# Altium footprint library AltiumDesigner.PcbLib: 1 footprints
Each footprint in its own frame and in the unit in brackets; x right, y up, seen from the top. Pads: shape width x height; smd on the part's side, far side on the other; paste and mask are expansions set on the pad; w line width, h text height; cw(c..) or ccw(c..) is an arc to the next point about the centre after c.
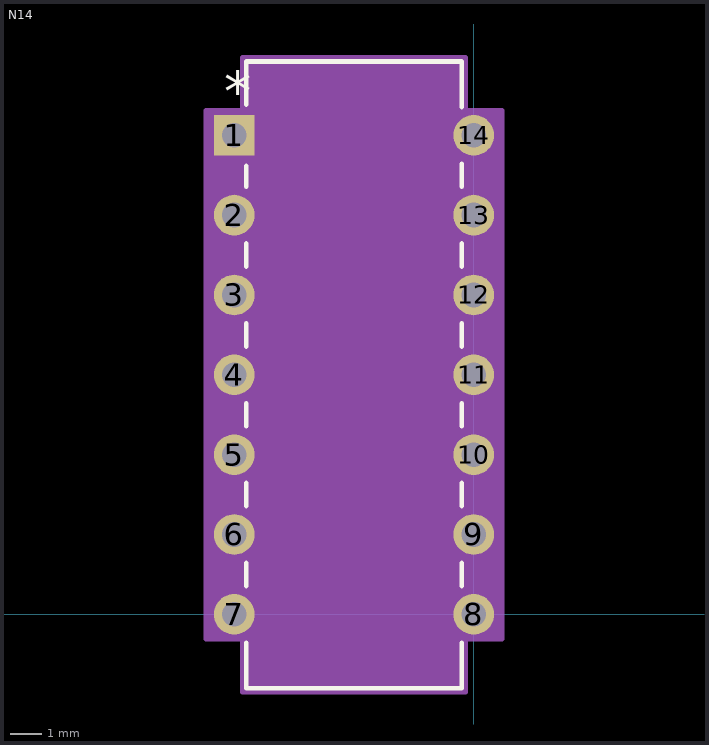
[diagram p0: the footprint, top view; thin cyan lines are the x and y axes]

## N14 [mil]
pads (14):
  rect 51x51 / inner round 60 / far side rect 51x51 hole 31 paste+0 mask+0: 1(-300,600)
  round 51 / inner round 60 / far side round 51 hole 31 paste+0 mask+0: 2(-300,500) 3(-300,400) 4(-300,300) 5(-300,200) 6(-300,100) 7(-300,0) 8(0,0) 9(0,100) 10(0,200) 11(0,300) 12(0,400) 13(0,500) 14(0,600)
Top Overlay:
  lines w6: -285,-35.57 -285,-92.5 -15,-92.5 -15,-35.57 ; -285,35.57 -285,64.43 ; -285,135.57 -285,164.43 ; -285,235.57 -285,264.43 ; -285,335.57 -285,364.43 ; -285,435.57 -285,464.43 ; -285,535.57 -285,561.4 ; -285,638.6 -285,692.5 -15,692.5 -15,635.57 ; -15,35.57 -15,64.43 ; -15,135.57 -15,164.43 ; -15,235.57 -15,264.43 ; -15,335.57 -15,364.43 ; -15,435.57 -15,464.43 ; -15,535.57 -15,564.43
  text "*" at -312.5,630.5 h50
Mechanical 13:
  lines w0: -162,687.5 ccw(c-150,687.5) -138,687.5
  lines w1: -315.5,-15.5 -315.5,15.5 -280,15.5 -280,-15.5 -315.5,-15.5 ; -315.5,84.5 -315.5,115.5 -280,115.5 -280,84.5 -315.5,84.5 ; -315.5,184.5 -315.5,215.5 -280,215.5 -280,184.5 -315.5,184.5 ; -315.5,284.5 -315.5,315.5 -280,315.5 -280,284.5 -315.5,284.5 ; -315.5,384.5 -315.5,415.5 -280,415.5 -280,384.5 -315.5,384.5 ; -315.5,484.5 -315.5,515.5 -280,515.5 -280,484.5 -315.5,484.5 ; -315.5,584.5 -315.5,615.5 -280,615.5 -280,584.5 -315.5,584.5 ; -280,-87.5 -20,-87.5 -20,687.5 -280,687.5 -280,-87.5 ; -20,-15.5 -20,15.5 15.5,15.5 15.5,-15.5 -20,-15.5 ; -20,84.5 -20,115.5 15.5,115.5 15.5,84.5 -20,84.5 ; -20,184.5 -20,215.5 15.5,215.5 15.5,184.5 -20,184.5 ; -20,284.5 -20,315.5 15.5,315.5 15.5,284.5 -20,284.5 ; -20,384.5 -20,415.5 15.5,415.5 15.5,384.5 -20,384.5 ; -20,484.5 -20,515.5 15.5,515.5 15.5,484.5 -20,484.5 ; -20,584.5 -20,615.5 15.5,615.5 15.5,584.5 -20,584.5
  text "*" at -282.5,575 h50
Mechanical 15:
  region: -10,-31 35.5,-31 35.5,631 -10,631 -10,697.5 -290,697.5 -290,631 -335.5,631 -335.5,-31 -290,-31 -290,-97.5 -10,-97.5
  lines w6: -335.5,-31 -335.5,631 -290,631 -290,697.5 -10,697.5 -10,631 35.5,631 35.5,-31 -10,-31 -10,-97.5 -290,-97.5 -290,-31 -335.5,-31
3D body: height 10, standoff 0, extent 0,0 10,10